# Altium footprint library FUSC455X324X75L75N.PcbLib: 1 footprints
Each footprint in its own frame and in the unit in brackets; x right, y up, seen from the top. Pads: shape width x height; smd on the part's side, far side on the other; paste and mask are expansions set on the pad; w line width, h text height; cw(c..) or ccw(c..) is an arc to the next point about the centre after c.
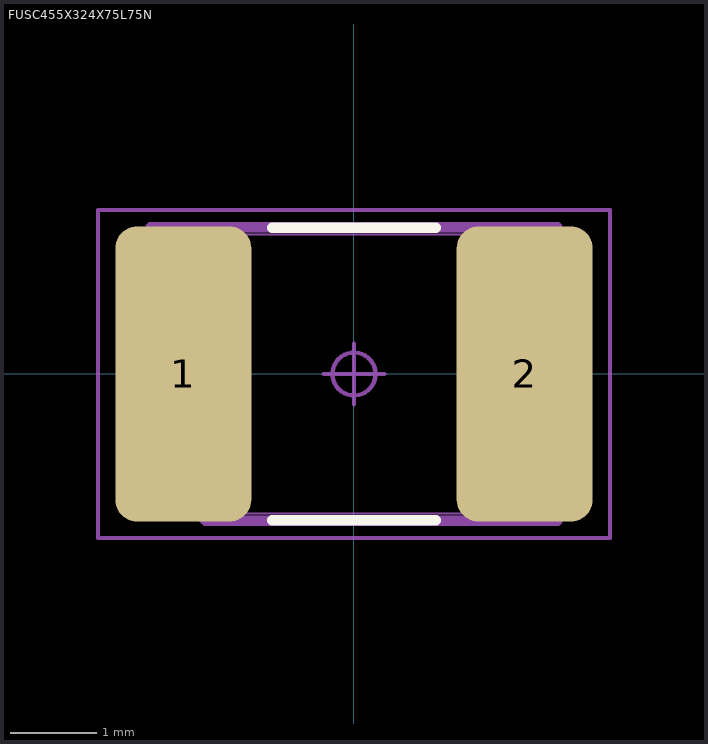
[diagram p0: the footprint, top view; thin cyan lines are the x and y axes]

## FUSC455X324X75L75N [mm] "Fuse, Chip; 4.55 mm L X 3.24 mm W X 0.75 mm H Body"
height 0.75
pads (2):
  rrect32% 1.582x3.428 smd: 1(-1.983,0) 2(1.983,0)
Top Overlay:
  lines w0.12: -0.95,-1.7 0.95,-1.7 ; -0.95,1.7 0.95,1.7
Mechanical 3:
  lines w0.12: -2.365,-1.064 -2.365,1.705 2.365,1.705 2.365,-1.705 -1.724,-1.705 -2.365,-1.064
Mechanical 5:
  lines w0.025: -2.275,-1.62 2.275,-1.62 ; -2.275,-1.62 -2.275,1.62 ; -2.275,-1.62 -2.275,1.62 ; -2.275,-1.62 -1.525,-1.62 -1.525,1.62 -2.275,1.62 ; -2.275,1.62 2.275,1.62 ; 2.275,-1.62 2.275,1.62 ; 2.275,-1.62 1.525,-1.62 1.525,1.62 2.275,1.62 ; 2.275,-1.62 2.275,1.62
Mechanical 7:
  circle w0.05: c0,0 r0.25
  lines w0.05: -0.35,0 0.35,0 ; 0,-0.35 0,0.35 ; -2.973,-1.905 2.973,-1.905 2.973,1.905 -2.973,1.905 -2.973,-1.905
Mechanical 9:
  text "'.Designator'" at -5.69,-0.271 h1.02
3D body "FUSC455X324X75L75.STEP": height 0.75, standoff 0, extent -2.275,-1.62 2.275,1.62
3D body: height 0.75, standoff 0, extent -2.973,-1.905 2.973,1.905